# Altium schematic symbol library Analog Devices Amplifiers and Linear Voltage References.SchLib: 547 symbols (part 13 of 20)
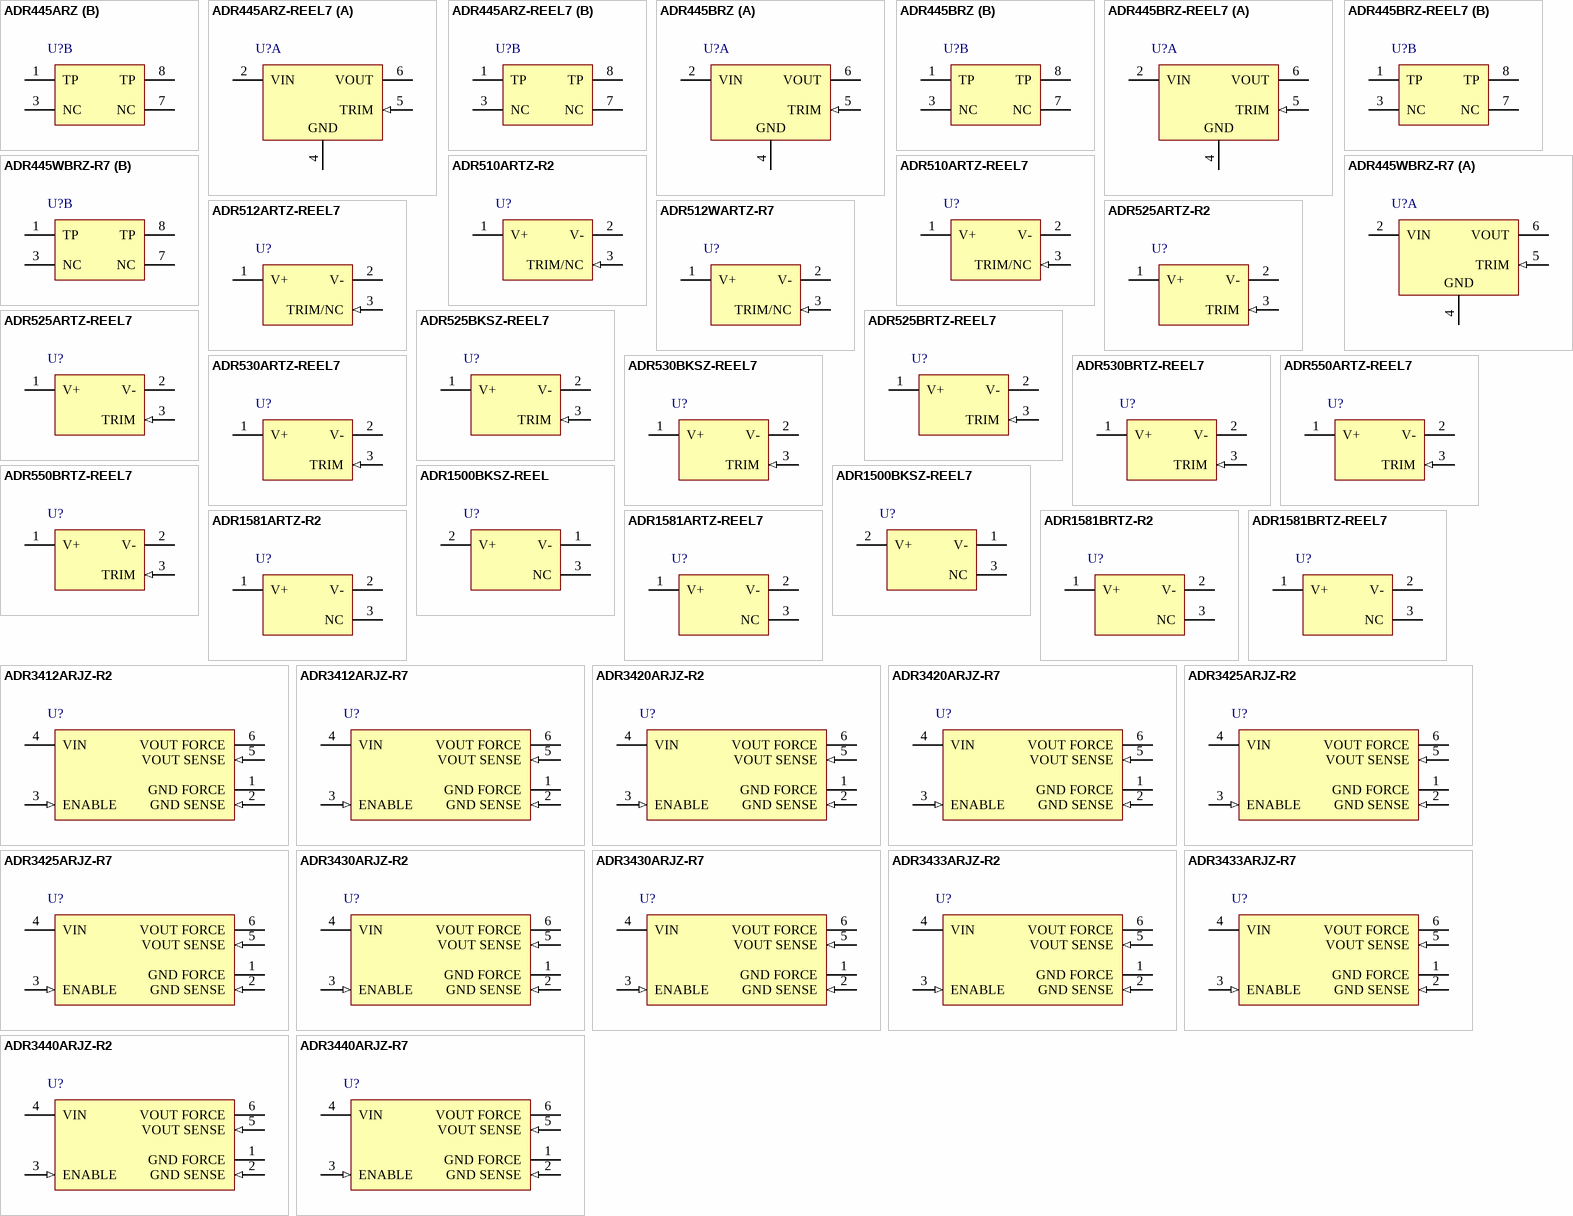
[diagram p32: symbols ADR445ARZ to ADR3440ARJZ-R7]

## ADR445ARZ
designator U?
Ultralow Noise, LDO XFET Voltage Reference with Current Sink and Source, 5 V Output, 5.5 to 18 V Supply, Industrial, 8-pin SOIC (R-8), Tube; Manufacturer: Analog Devices; PartNumber: ADR445ARZ; Max V Supply (V): 18; Min V Supply (V): 5.5; Ref Out TC (ppm/C): 2; Vout: 5V; DatasheetVersion: Rev. E; PackageVersion: 060506-A, 06/2006; PackageReference: R-8; PackageDescription: 8-Pin Standard Small Outline Package, Body 4.9 x 3.9 mm, Pitch 1.27 mm; Supplier 1: Digi-Key; Supplier Part Number 1: ADR445ARZ-ND; Supplier 2: Farnell; Supplier Part Number 2: 1274149; Supplier 3: Mouser; Supplier Part Number 3: 584-ADR445ARZ; Packing: Tube; Operating Temp Range: -40 to 125 degC; Mounting Technology: Surface Mount; Code_JEDEC: MS-012-AA; ComponentLink1Description: Manufacturer URL; ComponentLink1URL: http://www.analog.com/en/index.html; ComponentLink2Description: Datasheet; ComponentLink2URL: http://www.analog.com/static/imported-files/data_sheets/ADR440_441_443_444_445.pdf; ComponentLink3Description: Package Specification; ComponentLink3URL: http://www.analog.com/static/imported-files/packages/PKG_PDF/SOIC_Narrow%20(R)/R_8.pdf; ComponentLink4Description: URL Link1; ComponentLink4URL: Product URL:http://www.analog.com/en/special-linear-functions/voltage-references/adr445/products/product.html
footprint ADI-R-8_N (SOIC, 8-Leads, Body 4.9x3.9mm, Pitch 1.27mm, IPC Medium Density)
footprint ADI-R-8_L (SOIC, 8-Leads, Body 4.9x3.9mm, Pitch 1.27mm, IPC High Density)
footprint ADI-R-8_M (SOIC, 8-Leads, Body 4.9x3.9mm, Pitch 1.27mm, IPC Low Density)
part A pins: 2 VIN (power), 4 GND (power), 5 TRIM (in), 6 VOUT (power)
part B pins: 1 TP, 3 NC, 7 NC, 8 TP

## ADR445ARZ-REEL7
designator U?
Ultralow Noise, LDO XFET Voltage Reference with Current Sink and Source, 5 V Output, 5.5 to 18 V Supply, Industrial, 8-pin SOIC (R-8), Reel; Manufacturer: Analog Devices; PartNumber: ADR445ARZ-REEL7; Max V Supply (V): 18; Min V Supply (V): 5.5; Ref Out TC (ppm/C): 2; Vout: 5V; DatasheetVersion: Rev. E; PackageVersion: 060506-A, 06/2006; PackageReference: R-8; PackageDescription: 8-Pin Standard Small Outline Package, Body 4.9 x 3.9 mm, Pitch 1.27 mm; Supplier 1: Digi-Key; Supplier Part Number 1: ADR445ARZ-REEL7-ND; Supplier 2: Mouser; Supplier Part Number 2: 584-ADR445ARZ-R7; Packing: Reel; Operating Temp Range: -40 to 125 degC; Mounting Technology: Surface Mount; Code_JEDEC: MS-012-AA; ComponentLink1Description: Manufacturer URL; ComponentLink1URL: http://www.analog.com/en/index.html; ComponentLink2Description: Datasheet; ComponentLink2URL: http://www.analog.com/static/imported-files/data_sheets/ADR440_441_443_444_445.pdf; ComponentLink3Description: Package Specification; ComponentLink3URL: http://www.analog.com/static/imported-files/packages/PKG_PDF/SOIC_Narrow%20(R)/R_8.pdf; ComponentLink4Description: URL Link1; ComponentLink4URL: Product URL:http://www.analog.com/en/special-linear-functions/voltage-references/adr445/products/product.html
footprint ADI-R-8_N (SOIC, 8-Leads, Body 4.9x3.9mm, Pitch 1.27mm, IPC Medium Density)
footprint ADI-R-8_L (SOIC, 8-Leads, Body 4.9x3.9mm, Pitch 1.27mm, IPC High Density)
footprint ADI-R-8_M (SOIC, 8-Leads, Body 4.9x3.9mm, Pitch 1.27mm, IPC Low Density)
part A pins: 2 VIN (power), 4 GND (power), 5 TRIM (in), 6 VOUT (power)
part B pins: 1 TP, 3 NC, 7 NC, 8 TP

## ADR445BRZ
designator U?
Ultralow Noise, LDO XFET Voltage Reference with Current Sink and Source, 5 V Output, 5.5 to 18 V Supply, Industrial, 8-pin SOIC (R-8), Tube; Manufacturer: Analog Devices; PartNumber: ADR445BRZ; Max V Supply (V): 18; Min V Supply (V): 5.5; Ref Out TC (ppm/C): 1; Vout: 5V; DatasheetVersion: Rev. E; PackageVersion: 060506-A, 06/2006; PackageReference: R-8; PackageDescription: 8-Pin Standard Small Outline Package, Body 4.9 x 3.9 mm, Pitch 1.27 mm; Supplier 1: Digi-Key; Supplier Part Number 1: ADR445BRZ-ND; Supplier 2: Farnell; Supplier Part Number 2: 1274148; Supplier 3: Mouser; Supplier Part Number 3: 584-ADR445BRZ; Packing: Tube; Operating Temp Range: -40 to 125 degC; Mounting Technology: Surface Mount; Code_JEDEC: MS-012-AA; ComponentLink1Description: Manufacturer URL; ComponentLink1URL: http://www.analog.com/en/index.html; ComponentLink2Description: Datasheet; ComponentLink2URL: http://www.analog.com/static/imported-files/data_sheets/ADR440_441_443_444_445.pdf; ComponentLink3Description: Package Specification; ComponentLink3URL: http://www.analog.com/static/imported-files/packages/PKG_PDF/SOIC_Narrow%20(R)/R_8.pdf; ComponentLink4Description: URL Link1; ComponentLink4URL: Product URL:http://www.analog.com/en/special-linear-functions/voltage-references/adr445/products/product.html
footprint ADI-R-8_N (SOIC, 8-Leads, Body 4.9x3.9mm, Pitch 1.27mm, IPC Medium Density)
footprint ADI-R-8_L (SOIC, 8-Leads, Body 4.9x3.9mm, Pitch 1.27mm, IPC High Density)
footprint ADI-R-8_M (SOIC, 8-Leads, Body 4.9x3.9mm, Pitch 1.27mm, IPC Low Density)
part A pins: 2 VIN (power), 4 GND (power), 5 TRIM (in), 6 VOUT (power)
part B pins: 1 TP, 3 NC, 7 NC, 8 TP

## ADR445BRZ-REEL7
designator U?
Ultralow Noise, LDO XFET Voltage Reference with Current Sink and Source, 5 V Output, 5.5 to 18 V Supply, Industrial, 8-pin SOIC (R-8), Reel; Manufacturer: Analog Devices; PartNumber: ADR445BRZ-REEL7; Max V Supply (V): 18; Min V Supply (V): 5.5; Ref Out TC (ppm/C): 1; Vout: 5V; DatasheetVersion: Rev. E; PackageVersion: 060506-A, 06/2006; PackageReference: R-8; PackageDescription: 8-Pin Standard Small Outline Package, Body 4.9 x 3.9 mm, Pitch 1.27 mm; Supplier 1: Digi-Key; Supplier Part Number 1: ADR445BRZ-REEL7TR-ND; Supplier 2: Digi-Key; Supplier Part Number 2: ADR445BRZ-REEL7CT-ND; Supplier 3: Digi-Key; Supplier Part Number 3: ADR445BRZ-REEL7DKR-ND; Supplier 4: Mouser; Supplier Part Number 4: 584-ADR445BRZ-R7; Packing: Reel; Operating Temp Range: -40 to 125 degC; Mounting Technology: Surface Mount; Code_JEDEC: MS-012-AA; ComponentLink1Description: Manufacturer URL; ComponentLink1URL: http://www.analog.com/en/index.html; ComponentLink2Description: Datasheet; ComponentLink2URL: http://www.analog.com/static/imported-files/data_sheets/ADR440_441_443_444_445.pdf; ComponentLink3Description: Package Specification; ComponentLink3URL: http://www.analog.com/static/imported-files/packages/PKG_PDF/SOIC_Narrow%20(R)/R_8.pdf; ComponentLink4Description: URL Link1; ComponentLink4URL: Product URL:http://www.analog.com/en/special-linear-functions/voltage-references/adr445/products/product.html
footprint ADI-R-8_N (SOIC, 8-Leads, Body 4.9x3.9mm, Pitch 1.27mm, IPC Medium Density)
footprint ADI-R-8_L (SOIC, 8-Leads, Body 4.9x3.9mm, Pitch 1.27mm, IPC High Density)
footprint ADI-R-8_M (SOIC, 8-Leads, Body 4.9x3.9mm, Pitch 1.27mm, IPC Low Density)
part A pins: 2 VIN (power), 4 GND (power), 5 TRIM (in), 6 VOUT (power)
part B pins: 1 TP, 3 NC, 7 NC, 8 TP

## ADR445WBRZ-R7
designator U?
Ultralow Noise, LDO XFET Voltage Reference with Current Sink and Source, 5 V Output, 5.5 to 18 V Supply, Automotive, 8-pin SOIC (R-8), Reel; Manufacturer: Analog Devices; PartNumber: ADR445WBRZ-R7; Max V Supply (V): 18; Min V Supply (V): 5.5; Ref Out TC (ppm/C): 1; Vout: 5V; DatasheetVersion: Rev. E; PackageVersion: 060506-A, 06/2006; PackageReference: R-8; PackageDescription: 8-Pin Standard Small Outline Package, Body 4.9 x 3.9 mm, Pitch 1.27 mm; Supplier 1: Mouser; Supplier Part Number 1: N/A; Packing: Reel; Operating Temp Range: -40 to 125 degC; Mounting Technology: Surface Mount; Code_JEDEC: MS-012-AA; ComponentLink1Description: Manufacturer URL; ComponentLink1URL: http://www.analog.com/en/index.html; ComponentLink2Description: Datasheet; ComponentLink2URL: http://www.analog.com/static/imported-files/data_sheets/ADR440_441_443_444_445.pdf; ComponentLink3Description: Package Specification; ComponentLink3URL: http://www.analog.com/static/imported-files/packages/PKG_PDF/SOIC_Narrow%20(R)/R_8.pdf; ComponentLink4Description: URL Link1; ComponentLink4URL: Product URL:http://www.analog.com/en/special-linear-functions/voltage-references/adr445/products/product.html
footprint ADI-R-8_N (SOIC, 8-Leads, Body 4.9x3.9mm, Pitch 1.27mm, IPC Medium Density)
footprint ADI-R-8_L (SOIC, 8-Leads, Body 4.9x3.9mm, Pitch 1.27mm, IPC High Density)
footprint ADI-R-8_M (SOIC, 8-Leads, Body 4.9x3.9mm, Pitch 1.27mm, IPC Low Density)
part A pins: 2 VIN (power), 4 GND (power), 5 TRIM (in), 6 VOUT (power)
part B pins: 1 TP, 3 NC, 7 NC, 8 TP

## ADR510ARTZ-R2
designator U?
Precision Low Noise Shunt Voltage Reference, 1 V Output, Industrial, 3-pin SOT23 (RT-3), Reel; Manufacturer: Analog Devices; PartNumber: ADR510ARTZ-R2; Ref Out TC (ppm/C): 85; Vout: 1V; DatasheetVersion: Rev. B; PackageVersion: 011909-C, 02/2009; PackageReference: RT-3; PackageDescription: 3-Pin Small Outline Transistor Package, Body 2.9 x 1.3 mm, Pitch 0.96 mm; Supplier 1: Digi-Key; Supplier Part Number 1: ADR510ARTZ-R2TR-ND; Supplier 2: Digi-Key; Supplier Part Number 2: ADR510ARTZ-R2CT-ND; Supplier 3: Digi-Key; Supplier Part Number 3: ADR510ARTZ-R2DKR-ND; Supplier 4: Farnell; Supplier Part Number 4: 2377029; Supplier 5: Newark; Supplier Part Number 5: 23X6061; Supplier 6: Newark; Supplier Part Number 6: 52M2886; Supplier 7: Mouser; Supplier Part Number 7: 584-ADR510ARTZ-R2; Packing: Reel; Operating Temp Range: -40 to 85 degC; Mounting Technology: Surface Mount; Code_JEDEC: TO-236-AB; ComponentLink1Description: Manufacturer URL; ComponentLink1URL: http://www.analog.com/en/index.html; ComponentLink2Description: Datasheet; ComponentLink2URL: http://www.analog.com/static/imported-files/data_sheets/ADR510.pdf; ComponentLink3Description: Package Specification; ComponentLink3URL: http:/www.analog.com/static/imported-files/packages/PKG_PDF/SOT-23-3 (RT)/RT_3.pdf; ComponentLink4Description: URL Link1; ComponentLink4URL: Product URL:http://www.analog.com/en/special-linear-functions/voltage-references/adr510/products/product.html
footprint ADI-RT-3_N (SOT23, 3-Leads, Body 2.9x1.3mm, Pitch 0.96mm, IPC Medium Density)
footprint ADI-RT-3_L (SOT23, 3-Leads, Body 2.9x1.3mm, Pitch 0.96mm, IPC High Density)
footprint ADI-RT-3_M (SOT23, 3-Leads, Body 2.9x1.3mm, Pitch 0.96mm, IPC Low Density)
pins: 1 V+ (power), 2 V- (power), 3 TRIM/NC (in)

## ADR510ARTZ-REEL7
designator U?
Precision Low Noise Shunt Voltage Reference, 1 V Output, Industrial, 3-pin SOT23 (RT-3), Reel; Manufacturer: Analog Devices; PartNumber: ADR510ARTZ-REEL7; Ref Out TC (ppm/C): 85; Vout: 1V; DatasheetVersion: Rev. B; PackageVersion: 011909-C, 02/2009; PackageReference: RT-3; PackageDescription: 3-Pin Small Outline Transistor Package, Body 2.9 x 1.3 mm, Pitch 0.96 mm; Supplier 1: Digi-Key; Supplier Part Number 1: ADR510ARTZ-REEL7TR-ND; Supplier 2: Digi-Key; Supplier Part Number 2: ADR510ARTZ-REEL7CT-ND; Supplier 3: Digi-Key; Supplier Part Number 3: ADR510ARTZ-REEL7DKR-ND; Supplier 4: Farnell; Supplier Part Number 4: 2370361; Supplier 5: Newark; Supplier Part Number 5: 59K2838; Supplier 6: Newark; Supplier Part Number 6: 19M8736; Supplier 7: Mouser; Supplier Part Number 7: 584-ADR510ARTZ-R7; Packing: Reel; Operating Temp Range: -40 to 85 degC; Mounting Technology: Surface Mount; Code_JEDEC: TO-236-AB; ComponentLink1Description: Manufacturer URL; ComponentLink1URL: http://www.analog.com/en/index.html; ComponentLink2Description: Datasheet; ComponentLink2URL: http://www.analog.com/static/imported-files/data_sheets/ADR510.pdf; ComponentLink3Description: Package Specification; ComponentLink3URL: http:/www.analog.com/static/imported-files/packages/PKG_PDF/SOT-23-3 (RT)/RT_3.pdf; ComponentLink4Description: URL Link1; ComponentLink4URL: Product URL:http://www.analog.com/en/special-linear-functions/voltage-references/adr510/products/product.html
footprint ADI-RT-3_N (SOT23, 3-Leads, Body 2.9x1.3mm, Pitch 0.96mm, IPC Medium Density)
footprint ADI-RT-3_L (SOT23, 3-Leads, Body 2.9x1.3mm, Pitch 0.96mm, IPC High Density)
footprint ADI-RT-3_M (SOT23, 3-Leads, Body 2.9x1.3mm, Pitch 0.96mm, IPC Low Density)
pins: 1 V+ (power), 2 V- (power), 3 TRIM/NC (in)

## ADR512ARTZ-REEL7
designator U?
Precision Low Noise Shunt Voltage Reference, 1.2 V Output, Industrial, 3-pin SOT23 (RT-3), Reel; Manufacturer: Analog Devices; PartNumber: ADR512ARTZ-REEL7; Automotive Qualified: Yes; Ref Out TC (ppm/C): 60; Vout: 1.2V; DatasheetVersion: Rev. A; PackageVersion: 011909-C, 02/2009; PackageReference: RT-3; PackageDescription: 3-Pin Small Outline Transistor Package, Body 2.9 x 1.3 mm, Pitch 0.96 mm; Supplier 1: Digi-Key; Supplier Part Number 1: ADR512ARTZ-REEL7TR-ND; Supplier 2: Digi-Key; Supplier Part Number 2: ADR512ARTZ-REEL7CT-ND; Supplier 3: Digi-Key; Supplier Part Number 3: ADR512ARTZ-REEL7DKR-ND; Supplier 4: Farnell; Supplier Part Number 4: 2312910; Supplier 5: Newark; Supplier Part Number 5: 67W2731; Supplier 6: Newark; Supplier Part Number 6: 59K2839; Supplier 7: Mouser; Supplier Part Number 7: 584-ADR512ARTZ-R7; Packing: Reel; Operating Temp Range: -40 to 85 degC; Mounting Technology: Surface Mount; Code_JEDEC: TO-236-AB; ComponentLink1Description: Manufacturer URL; ComponentLink1URL: http://www.analog.com/en/index.html; ComponentLink2Description: Datasheet; ComponentLink2URL: http://www.analog.com/static/imported-files/data_sheets/ADR512.pdf; ComponentLink3Description: Package Specification; ComponentLink3URL: http:/www.analog.com/static/imported-files/packages/PKG_PDF/SOT-23-3 (RT)/RT_3.pdf; ComponentLink4Description: URL Link1; ComponentLink4URL: Product URL:http://www.analog.com/en/special-linear-functions/voltage-references/adr512/products/product.html
footprint ADI-RT-3_N (SOT23, 3-Leads, Body 2.9x1.3mm, Pitch 0.96mm, IPC Medium Density)
footprint ADI-RT-3_L (SOT23, 3-Leads, Body 2.9x1.3mm, Pitch 0.96mm, IPC High Density)
footprint ADI-RT-3_M (SOT23, 3-Leads, Body 2.9x1.3mm, Pitch 0.96mm, IPC Low Density)
pins: 1 V+ (power), 2 V- (power), 3 TRIM/NC (in)

## ADR512WARTZ-R7
designator U?
Precision Low Noise Shunt Voltage Reference, 1.2 V Output, Automotive, 3-pin SOT23 (RT-3), Reel; Manufacturer: Analog Devices; PartNumber: ADR512WARTZ-R7; Automotive Qualified: Yes; Ref Out TC (ppm/C): 60; Vout: 1.2V; DatasheetVersion: Rev. A; PackageVersion: 011909-C, 02/2009; PackageReference: RT-3; PackageDescription: 3-Pin Small Outline Transistor Package, Body 2.9 x 1.3 mm, Pitch 0.96 mm; Supplier 1: Digi-Key; Supplier Part Number 1: ADR512WARTZ-R7TR-ND; Supplier 2: Digi-Key; Supplier Part Number 2: ADR512WARTZ-R7CT-ND; Supplier 3: Digi-Key; Supplier Part Number 3: ADR512WARTZ-R7DKR-ND; Supplier 4: Mouser; Supplier Part Number 4: 584-ADR512WARTZ-R7; Packing: Reel; Operating Temp Range: -40 to 85 degC; Mounting Technology: Surface Mount; Code_JEDEC: TO-236-AB; ComponentLink1Description: Manufacturer URL; ComponentLink1URL: http://www.analog.com/en/index.html; ComponentLink2Description: Datasheet; ComponentLink2URL: http://www.analog.com/static/imported-files/data_sheets/ADR512.pdf; ComponentLink3Description: Package Specification; ComponentLink3URL: http:/www.analog.com/static/imported-files/packages/PKG_PDF/SOT-23-3 (RT)/RT_3.pdf; ComponentLink4Description: URL Link1; ComponentLink4URL: Product URL:http://www.analog.com/en/special-linear-functions/voltage-references/adr512/products/product.html
footprint ADI-RT-3_N (SOT23, 3-Leads, Body 2.9x1.3mm, Pitch 0.96mm, IPC Medium Density)
footprint ADI-RT-3_L (SOT23, 3-Leads, Body 2.9x1.3mm, Pitch 0.96mm, IPC High Density)
footprint ADI-RT-3_M (SOT23, 3-Leads, Body 2.9x1.3mm, Pitch 0.96mm, IPC Low Density)
pins: 1 V+ (power), 2 V- (power), 3 TRIM/NC (in)

## ADR525ARTZ-R2
designator U?
High Precision Shunt Mode Voltage Reference, 2.5 V Output, Industrial, 3-pin SOT23 (RT-3), Reel; Manufacturer: Analog Devices; PartNumber: ADR525ARTZ-R2; Ref Out TC (ppm/C): 25; Vout: 2.5V; DatasheetVersion: Rev. F; PackageVersion: 011909-C, 02/2009; PackageReference: RT-3; PackageDescription: 3-Pin Small Outline Transistor Package, Body 2.9 x 1.3 mm, Pitch 0.96 mm; Supplier 1: Digi-Key; Supplier Part Number 1: ADR525ARTZ-R2TR-ND; Supplier 2: Digi-Key; Supplier Part Number 2: ADR525ARTZ-R2CT-ND; Supplier 3: Digi-Key; Supplier Part Number 3: ADR525ARTZ-R2DKR-ND; Supplier 4: Newark; Supplier Part Number 4: 12M8228; Supplier 5: Mouser; Supplier Part Number 5: 584-ADR525ARTZ-R2; Packing: Reel; Operating Temp Range: -40 to 85 degC; Mounting Technology: Surface Mount; Code_JEDEC: TO-236-AB; ComponentLink1Description: Manufacturer URL; ComponentLink1URL: http://www.analog.com/en/index.html; ComponentLink2Description: Datasheet; ComponentLink2URL: http://www.analog.com/static/imported-files/data_sheets/ADR525_530_550.pdf; ComponentLink3Description: Package Specification; ComponentLink3URL: http:/www.analog.com/static/imported-files/packages/PKG_PDF/SOT-23-3 (RT)/RT_3.pdf; ComponentLink4Description: URL Link1; ComponentLink4URL: Product URL:http://www.analog.com/en/special-linear-functions/voltage-references/adr525/products/product.html
footprint ADI-RT-3_N (SOT23, 3-Leads, Body 2.9x1.3mm, Pitch 0.96mm, IPC Medium Density)
footprint ADI-RT-3_L (SOT23, 3-Leads, Body 2.9x1.3mm, Pitch 0.96mm, IPC High Density)
footprint ADI-RT-3_M (SOT23, 3-Leads, Body 2.9x1.3mm, Pitch 0.96mm, IPC Low Density)
pins: 1 V+, 2 V-, 3 TRIM (in)

## ADR525ARTZ-REEL7
designator U?
High Precision Shunt Mode Voltage Reference, 2.5 V Output, Industrial, 3-pin SOT23 (RT-3), Reel; Manufacturer: Analog Devices; PartNumber: ADR525ARTZ-REEL7; Ref Out TC (ppm/C): 25; Vout: 2.5V; DatasheetVersion: Rev. F; PackageVersion: 011909-C, 02/2009; PackageReference: RT-3; PackageDescription: 3-Pin Small Outline Transistor Package, Body 2.9 x 1.3 mm, Pitch 0.96 mm; Supplier 1: Digi-Key; Supplier Part Number 1: ADR525ARTZ-REEL7TR-ND; Supplier 2: Digi-Key; Supplier Part Number 2: ADR525ARTZ-REEL7CT-ND; Supplier 3: Digi-Key; Supplier Part Number 3: ADR525ARTZ-REEL7DKR-ND; Supplier 4: Newark; Supplier Part Number 4: 59K2850; Supplier 5: Mouser; Supplier Part Number 5: 584-ADR525ARTZ-R7; Packing: Reel; Operating Temp Range: -40 to 85 degC; Mounting Technology: Surface Mount; Code_JEDEC: TO-236-AB; ComponentLink1Description: Manufacturer URL; ComponentLink1URL: http://www.analog.com/en/index.html; ComponentLink2Description: Datasheet; ComponentLink2URL: http://www.analog.com/static/imported-files/data_sheets/ADR525_530_550.pdf; ComponentLink3Description: Package Specification; ComponentLink3URL: http:/www.analog.com/static/imported-files/packages/PKG_PDF/SOT-23-3 (RT)/RT_3.pdf; ComponentLink4Description: URL Link1; ComponentLink4URL: Product URL:http://www.analog.com/en/special-linear-functions/voltage-references/adr525/products/product.html
footprint ADI-RT-3_N (SOT23, 3-Leads, Body 2.9x1.3mm, Pitch 0.96mm, IPC Medium Density)
footprint ADI-RT-3_L (SOT23, 3-Leads, Body 2.9x1.3mm, Pitch 0.96mm, IPC High Density)
footprint ADI-RT-3_M (SOT23, 3-Leads, Body 2.9x1.3mm, Pitch 0.96mm, IPC Low Density)
pins: 1 V+, 2 V-, 3 TRIM (in)

## ADR525BKSZ-REEL7
designator U?
High Precision Shunt Mode Voltage Reference, 2.5 V Output, Industrial, 3-pin SOT23 (KS-3), Reel; Manufacturer: Analog Devices; PartNumber: ADR525BKSZ-REEL7; Ref Out TC (ppm/C): 15; Vout: 2.5V; DatasheetVersion: Rev. F; PackageVersion: 072809-A, 07/2009; PackageReference: KS-3; PackageDescription: 3-Pin Thin Shrink Small Outline Transistor Package, Body 2 x 1.25 mm, Pitch 0.65 mm; Supplier 1: Digi-Key; Supplier Part Number 1: ADR525BKSZ-REEL7TR-ND; Supplier 2: Digi-Key; Supplier Part Number 2: ADR525BKSZ-REEL7CT-ND; Supplier 3: Digi-Key; Supplier Part Number 3: ADR525BKSZ-REEL7DKR-ND; Supplier 4: Farnell; Supplier Part Number 4: 2312911; Supplier 5: Newark; Supplier Part Number 5: 67W2732; Supplier 6: Newark; Supplier Part Number 6: 59K2853; Supplier 7: Mouser; Supplier Part Number 7: 584-ADR525BKSZ-R7; Packing: Reel; Operating Temp Range: -40 to 85 degC; Mounting Technology: Surface Mount; ComponentLink1Description: Manufacturer URL; ComponentLink1URL: http://www.analog.com/en/index.html; ComponentLink2Description: Datasheet; ComponentLink2URL: http://www.analog.com/static/imported-files/data_sheets/ADR525_530_550.pdf; ComponentLink3Description: Package Specification; ComponentLink3URL: http:/www.analog.com/static/imported-files/packages/PKG_PDF/SC70(KS)/KS_3.pdf; ComponentLink4Description: URL Link1; ComponentLink4URL: Product URL:http://www.analog.com/en/special-linear-functions/voltage-references/adr525/products/product.html
footprint ADI-KS-3_N (SOT23, 3-Leads, Body 2x1.25mm, Pitch 0.65mm, IPC Medium Density)
footprint ADI-KS-3_L (SOT23, 3-Leads, Body 2x1.25mm, Pitch 0.65mm, IPC High Density)
footprint ADI-KS-3_M (SOT23, 3-Leads, Body 2x1.25mm, Pitch 0.65mm, IPC Low Density)
pins: 1 V+, 2 V-, 3 TRIM (in)

## ADR525BRTZ-REEL7
designator U?
High Precision Shunt Mode Voltage Reference, 2.5 V Output, Industrial, 3-pin SOT23 (RT-3), Reel; Manufacturer: Analog Devices; PartNumber: ADR525BRTZ-REEL7; Ref Out TC (ppm/C): 15; Vout: 2.5V; DatasheetVersion: Rev. F; PackageVersion: 011909-C, 02/2009; PackageReference: RT-3; PackageDescription: 3-Pin Small Outline Transistor Package, Body 2.9 x 1.3 mm, Pitch 0.96 mm; Supplier 1: Digi-Key; Supplier Part Number 1: ADR525BRTZ-REEL7TR-ND; Supplier 2: Digi-Key; Supplier Part Number 2: ADR525BRTZ-REEL7CT-ND; Supplier 3: Digi-Key; Supplier Part Number 3: ADR525BRTZ-REEL7DKR-ND; Supplier 4: Farnell; Supplier Part Number 4: 2312912; Supplier 5: Newark; Supplier Part Number 5: 59K2856; Supplier 6: Newark; Supplier Part Number 6: 67W2733; Supplier 7: Mouser; Supplier Part Number 7: 584-ADR525BRTZ-R7; Packing: Reel; Operating Temp Range: -40 to 85 degC; Mounting Technology: Surface Mount; Code_JEDEC: TO-236-AB; ComponentLink1Description: Manufacturer URL; ComponentLink1URL: http://www.analog.com/en/index.html; ComponentLink2Description: Datasheet; ComponentLink2URL: http://www.analog.com/static/imported-files/data_sheets/ADR525_530_550.pdf; ComponentLink3Description: Package Specification; ComponentLink3URL: http:/www.analog.com/static/imported-files/packages/PKG_PDF/SOT-23-3 (RT)/RT_3.pdf; ComponentLink4Description: URL Link1; ComponentLink4URL: Product URL:http://www.analog.com/en/special-linear-functions/voltage-references/adr525/products/product.html
footprint ADI-RT-3_N (SOT23, 3-Leads, Body 2.9x1.3mm, Pitch 0.96mm, IPC Medium Density)
footprint ADI-RT-3_L (SOT23, 3-Leads, Body 2.9x1.3mm, Pitch 0.96mm, IPC High Density)
footprint ADI-RT-3_M (SOT23, 3-Leads, Body 2.9x1.3mm, Pitch 0.96mm, IPC Low Density)
pins: 1 V+, 2 V-, 3 TRIM (in)

## ADR530ARTZ-REEL7
designator U?
High Precision Shunt Mode Voltage Reference, 3 V Output, Industrial, 3-pin SOT23 (RT-3), Reel; Manufacturer: Analog Devices; PartNumber: ADR530ARTZ-REEL7; Ref Out TC (ppm/C): 25; Vout: 3V; DatasheetVersion: Rev. F; PackageVersion: 011909-C, 02/2009; PackageReference: RT-3; PackageDescription: 3-Pin Small Outline Transistor Package, Body 2.9 x 1.3 mm, Pitch 0.96 mm; Supplier 1: Digi-Key; Supplier Part Number 1: ADR530ARTZ-REEL7TR-ND; Supplier 2: Digi-Key; Supplier Part Number 2: ADR530ARTZ-REEL7CT-ND; Supplier 3: Digi-Key; Supplier Part Number 3: ADR530ARTZ-REEL7DKR-ND; Supplier 4: Newark; Supplier Part Number 4: 59K2859; Supplier 5: Mouser; Supplier Part Number 5: 584-ADR530ARTZ-R7; Packing: Reel; Operating Temp Range: -40 to 85 degC; Mounting Technology: Surface Mount; Code_JEDEC: TO-236-AB; ComponentLink1Description: Manufacturer URL; ComponentLink1URL: http://www.analog.com/en/index.html; ComponentLink2Description: Datasheet; ComponentLink2URL: http://www.analog.com/static/imported-files/data_sheets/ADR525_530_550.pdf; ComponentLink3Description: Package Specification; ComponentLink3URL: http:/www.analog.com/static/imported-files/packages/PKG_PDF/SOT-23-3 (RT)/RT_3.pdf; ComponentLink4Description: URL Link1; ComponentLink4URL: Product URL:http://www.analog.com/en/special-linear-functions/voltage-references/adr530/products/product.html
footprint ADI-RT-3_N (SOT23, 3-Leads, Body 2.9x1.3mm, Pitch 0.96mm, IPC Medium Density)
footprint ADI-RT-3_L (SOT23, 3-Leads, Body 2.9x1.3mm, Pitch 0.96mm, IPC High Density)
footprint ADI-RT-3_M (SOT23, 3-Leads, Body 2.9x1.3mm, Pitch 0.96mm, IPC Low Density)
pins: 1 V+, 2 V-, 3 TRIM (in)

## ADR530BKSZ-REEL7
designator U?
High Precision Shunt Mode Voltage Reference, 3 V Output, Industrial, 3-pin SOT23 (KS-3), Reel; Manufacturer: Analog Devices; PartNumber: ADR530BKSZ-REEL7; Ref Out TC (ppm/C): 15; Vout: 3V; DatasheetVersion: Rev. F; PackageVersion: 072809-A, 07/2009; PackageReference: KS-3; PackageDescription: 3-Pin Thin Shrink Small Outline Transistor Package, Body 2 x 1.25 mm, Pitch 0.65 mm; Supplier 1: Digi-Key; Supplier Part Number 1: ADR530BKSZ-REEL7TR-ND; Supplier 2: Digi-Key; Supplier Part Number 2: ADR530BKSZ-REEL7CT-ND; Supplier 3: Digi-Key; Supplier Part Number 3: ADR530BKSZ-REEL7DKR-ND; Supplier 4: Farnell; Supplier Part Number 4: 2312913; Supplier 5: Newark; Supplier Part Number 5: 67W2734; Supplier 6: Newark; Supplier Part Number 6: 59K2862; Supplier 7: Mouser; Supplier Part Number 7: 584-ADR530BKSZ-R7; Packing: Reel; Operating Temp Range: -40 to 85 degC; Mounting Technology: Surface Mount; ComponentLink1Description: Manufacturer URL; ComponentLink1URL: http://www.analog.com/en/index.html; ComponentLink2Description: Datasheet; ComponentLink2URL: http://www.analog.com/static/imported-files/data_sheets/ADR525_530_550.pdf; ComponentLink3Description: Package Specification; ComponentLink3URL: http:/www.analog.com/static/imported-files/packages/PKG_PDF/SC70(KS)/KS_3.pdf; ComponentLink4Description: URL Link1; ComponentLink4URL: Product URL:http://www.analog.com/en/special-linear-functions/voltage-references/adr530/products/product.html
footprint ADI-KS-3_N (SOT23, 3-Leads, Body 2x1.25mm, Pitch 0.65mm, IPC Medium Density)
footprint ADI-KS-3_L (SOT23, 3-Leads, Body 2x1.25mm, Pitch 0.65mm, IPC High Density)
footprint ADI-KS-3_M (SOT23, 3-Leads, Body 2x1.25mm, Pitch 0.65mm, IPC Low Density)
pins: 1 V+, 2 V-, 3 TRIM (in)

## ADR530BRTZ-REEL7
designator U?
High Precision Shunt Mode Voltage Reference, 3 V Output, Industrial, 3-pin SOT23 (RT-3), Reel; Manufacturer: Analog Devices; PartNumber: ADR530BRTZ-REEL7; Ref Out TC (ppm/C): 15; Vout: 3V; DatasheetVersion: Rev. F; PackageVersion: 011909-C, 02/2009; PackageReference: RT-3; PackageDescription: 3-Pin Small Outline Transistor Package, Body 2.9 x 1.3 mm, Pitch 0.96 mm; Supplier 1: Digi-Key; Supplier Part Number 1: ADR530BRTZ-REEL7TR-ND; Supplier 2: Digi-Key; Supplier Part Number 2: ADR530BRTZ-REEL7CT-ND; Supplier 3: Digi-Key; Supplier Part Number 3: ADR530BRTZ-REEL7DKR-ND; Supplier 4: Farnell; Supplier Part Number 4: 2361640; Supplier 5: Farnell; Supplier Part Number 5: 2312798; Supplier 6: Newark; Supplier Part Number 6: 59K2865; Supplier 7: Newark; Supplier Part Number 7: 80K8148; Supplier 8: Mouser; Supplier Part Number 8: 584-ADR530BRTZ-R7; Packing: Reel; Operating Temp Range: -40 to 85 degC; Mounting Technology: Surface Mount; Code_JEDEC: TO-236-AB; ComponentLink1Description: Manufacturer URL; ComponentLink1URL: http://www.analog.com/en/index.html; ComponentLink2Description: Datasheet; ComponentLink2URL: http://www.analog.com/static/imported-files/data_sheets/ADR525_530_550.pdf; ComponentLink3Description: Package Specification; ComponentLink3URL: http:/www.analog.com/static/imported-files/packages/PKG_PDF/SOT-23-3 (RT)/RT_3.pdf; ComponentLink4Description: URL Link1; ComponentLink4URL: Product URL:http://www.analog.com/en/special-linear-functions/voltage-references/adr530/products/product.html
footprint ADI-RT-3_N (SOT23, 3-Leads, Body 2.9x1.3mm, Pitch 0.96mm, IPC Medium Density)
footprint ADI-RT-3_L (SOT23, 3-Leads, Body 2.9x1.3mm, Pitch 0.96mm, IPC High Density)
footprint ADI-RT-3_M (SOT23, 3-Leads, Body 2.9x1.3mm, Pitch 0.96mm, IPC Low Density)
pins: 1 V+, 2 V-, 3 TRIM (in)

## ADR550ARTZ-REEL7
designator U?
High Precision Shunt Mode Voltage Reference, 5 V Output, Industrial, 3-pin SOT23 (RT-3), Reel; Manufacturer: Analog Devices; PartNumber: ADR550ARTZ-REEL7; Ref Out TC (ppm/C): 25; Vout: 5V; DatasheetVersion: Rev. F; PackageVersion: 011909-C, 02/2009; PackageReference: RT-3; PackageDescription: 3-Pin Small Outline Transistor Package, Body 2.9 x 1.3 mm, Pitch 0.96 mm; Supplier 1: Digi-Key; Supplier Part Number 1: ADR550ARTZ-REEL7TR-ND; Supplier 2: Digi-Key; Supplier Part Number 2: ADR550ARTZ-REEL7CT-ND; Supplier 3: Digi-Key; Supplier Part Number 3: ADR550ARTZ-REEL7DKR-ND; Supplier 4: Mouser; Supplier Part Number 4: 584-ADR550ARTZ-R7; Packing: Reel; Operating Temp Range: -40 to 85 degC; Mounting Technology: Surface Mount; Code_JEDEC: TO-236-AB; ComponentLink1Description: Manufacturer URL; ComponentLink1URL: http://www.analog.com/en/index.html; ComponentLink2Description: Datasheet; ComponentLink2URL: http://www.analog.com/static/imported-files/data_sheets/ADR525_530_550.pdf; ComponentLink3Description: Package Specification; ComponentLink3URL: http:/www.analog.com/static/imported-files/packages/PKG_PDF/SOT-23-3 (RT)/RT_3.pdf; ComponentLink4Description: URL Link1; ComponentLink4URL: Product URL:http://www.analog.com/en/special-linear-functions/voltage-references/adr550/products/product.html
footprint ADI-RT-3_N (SOT23, 3-Leads, Body 2.9x1.3mm, Pitch 0.96mm, IPC Medium Density)
footprint ADI-RT-3_L (SOT23, 3-Leads, Body 2.9x1.3mm, Pitch 0.96mm, IPC High Density)
footprint ADI-RT-3_M (SOT23, 3-Leads, Body 2.9x1.3mm, Pitch 0.96mm, IPC Low Density)
pins: 1 V+, 2 V-, 3 TRIM (in)

## ADR550BRTZ-REEL7
designator U?
High Precision Shunt Mode Voltage Reference, 5 V Output, Industrial, 3-pin SOT23 (RT-3), Reel; Manufacturer: Analog Devices; PartNumber: ADR550BRTZ-REEL7; Ref Out TC (ppm/C): 15; Vout: 5V; DatasheetVersion: Rev. F; PackageVersion: 011909-C, 02/2009; PackageReference: RT-3; PackageDescription: 3-Pin Small Outline Transistor Package, Body 2.9 x 1.3 mm, Pitch 0.96 mm; Supplier 1: Digi-Key; Supplier Part Number 1: ADR550BRTZ-REEL7TR-ND; Supplier 2: Digi-Key; Supplier Part Number 2: ADR550BRTZ-REEL7CT-ND; Supplier 3: Digi-Key; Supplier Part Number 3: ADR550BRTZ-REEL7DKR-ND; Supplier 4: Farnell; Supplier Part Number 4: 2312914; Supplier 5: Newark; Supplier Part Number 5: 67W2735; Supplier 6: Newark; Supplier Part Number 6: 59K2883; Supplier 7: Mouser; Supplier Part Number 7: 584-ADR550BRTZ-R7; Packing: Reel; Operating Temp Range: -40 to 85 degC; Mounting Technology: Surface Mount; Code_JEDEC: TO-236-AB; ComponentLink1Description: Manufacturer URL; ComponentLink1URL: http://www.analog.com/en/index.html; ComponentLink2Description: Datasheet; ComponentLink2URL: http://www.analog.com/static/imported-files/data_sheets/ADR525_530_550.pdf; ComponentLink3Description: Package Specification; ComponentLink3URL: http:/www.analog.com/static/imported-files/packages/PKG_PDF/SOT-23-3 (RT)/RT_3.pdf; ComponentLink4Description: URL Link1; ComponentLink4URL: Product URL:http://www.analog.com/en/special-linear-functions/voltage-references/adr550/products/product.html
footprint ADI-RT-3_N (SOT23, 3-Leads, Body 2.9x1.3mm, Pitch 0.96mm, IPC Medium Density)
footprint ADI-RT-3_L (SOT23, 3-Leads, Body 2.9x1.3mm, Pitch 0.96mm, IPC High Density)
footprint ADI-RT-3_M (SOT23, 3-Leads, Body 2.9x1.3mm, Pitch 0.96mm, IPC Low Density)
pins: 1 V+, 2 V-, 3 TRIM (in)

## ADR1500BKSZ-REEL
designator U?
Micropower, Shunt Voltage Reference, 1.2875 V Output, Industrial, 3-pin SOT23 (KS-3), Reel; Manufacturer: Analog Devices; PartNumber: ADR1500BKSZ-REEL; Ref Out TC (ppm/C): 170; DatasheetVersion: Rev. 0; PackageVersion: 072809-A, 07/2009; PackageReference: KS-3; PackageDescription: 3-Pin Thin Shrink Small Outline Transistor Package, Body 2 x 1.25 mm, Pitch 0.65 mm; Supplier 1: Digi-Key; Supplier Part Number 1: ADR1500BKSZ-REEL-ND; Supplier 2: Mouser; Supplier Part Number 2: 584-ADR1500BKSZ-R; Packing: Reel; Operating Temp Range: -40 to 85 degC; Vout: 1.2875V; Mounting Technology: Surface Mount; ComponentLink1Description: Manufacturer URL; ComponentLink1URL: http://www.analog.com/en/index.html; ComponentLink2Description: Datasheet; ComponentLink2URL: http://www.analog.com/static/imported-files/data_sheets/ADR1500.pdf; ComponentLink3Description: Package Specification; ComponentLink3URL: http:/www.analog.com/static/imported-files/packages/PKG_PDF/SC70(KS)/KS_3.pdf; ComponentLink4Description: URL Link1; ComponentLink4URL: Product URL:http://www.analog.com/en/special-linear-functions/voltage-references/adr1500/products/product.html
footprint ADI-KS-3_N (SOT23, 3-Leads, Body 2x1.25mm, Pitch 0.65mm, IPC Medium Density)
footprint ADI-KS-3_L (SOT23, 3-Leads, Body 2x1.25mm, Pitch 0.65mm, IPC High Density)
footprint ADI-KS-3_M (SOT23, 3-Leads, Body 2x1.25mm, Pitch 0.65mm, IPC Low Density)
pins: 1 V-, 2 V+, 3 NC

## ADR1500BKSZ-REEL7
designator U?
Micropower, Shunt Voltage Reference, 1.2875 V Output, Industrial, 3-pin SOT23 (KS-3), Reel; Manufacturer: Analog Devices; PartNumber: ADR1500BKSZ-REEL7; Ref Out TC (ppm/C): 170; DatasheetVersion: Rev. 0; PackageVersion: 072809-A, 07/2009; PackageReference: KS-3; PackageDescription: 3-Pin Thin Shrink Small Outline Transistor Package, Body 2 x 1.25 mm, Pitch 0.65 mm; Supplier 1: Digi-Key; Supplier Part Number 1: ADR1500BKSZ-REEL7TR-ND; Supplier 2: Digi-Key; Supplier Part Number 2: ADR1500BKSZ-REEL7CT-ND; Supplier 3: Digi-Key; Supplier Part Number 3: ADR1500BKSZ-REEL7DKR-ND; Supplier 4: Mouser; Supplier Part Number 4: 584-ADR1500BKSZ-R7; Packing: Reel; Operating Temp Range: -40 to 85 degC; Vout: 1.2875V; Mounting Technology: Surface Mount; ComponentLink1Description: Manufacturer URL; ComponentLink1URL: http://www.analog.com/en/index.html; ComponentLink2Description: Datasheet; ComponentLink2URL: http://www.analog.com/static/imported-files/data_sheets/ADR1500.pdf; ComponentLink3Description: Package Specification; ComponentLink3URL: http:/www.analog.com/static/imported-files/packages/PKG_PDF/SC70(KS)/KS_3.pdf; ComponentLink4Description: URL Link1; ComponentLink4URL: Product URL:http://www.analog.com/en/special-linear-functions/voltage-references/adr1500/products/product.html
footprint ADI-KS-3_N (SOT23, 3-Leads, Body 2x1.25mm, Pitch 0.65mm, IPC Medium Density)
footprint ADI-KS-3_L (SOT23, 3-Leads, Body 2x1.25mm, Pitch 0.65mm, IPC High Density)
footprint ADI-KS-3_M (SOT23, 3-Leads, Body 2x1.25mm, Pitch 0.65mm, IPC Low Density)
pins: 1 V-, 2 V+, 3 NC

## ADR1581ARTZ-R2
designator U?
Micropower, Precision Shunt Voltage Reference, 1.25 V Output, Industrial, 3-pin SOT23 (RT-3), Reel; Manufacturer: Analog Devices; PartNumber: ADR1581ARTZ-R2; Ref Out TC (ppm/C): 100; Vout: 1.25V; DatasheetVersion: Rev. 0; PackageVersion: 011909-C, 02/2009; PackageReference: RT-3; PackageDescription: 3-Pin Small Outline Transistor Package, Body 2.9 x 1.3 mm, Pitch 0.96 mm; Supplier 1: Digi-Key; Supplier Part Number 1: ADR1581ARTZ-R2-ND; Supplier 2: Farnell; Supplier Part Number 2: 2074901RL; Supplier 3: Farnell; Supplier Part Number 3: 2074901; Supplier 4: Farnell; Supplier Part Number 4: 1571201; Supplier 5: Mouser; Supplier Part Number 5: 584-ADR1581ARTZ-R2; Packing: Reel; Operating Temp Range: -40 to 85 degC; Mounting Technology: Surface Mount; Code_JEDEC: TO-236-AB; ComponentLink1Description: Manufacturer URL; ComponentLink1URL: http://www.analog.com/en/index.html; ComponentLink2Description: Datasheet; ComponentLink2URL: http://www.analog.com/static/imported-files/data_sheets/ADR1581.pdf; ComponentLink3Description: Package Specification; ComponentLink3URL: http:/www.analog.com/static/imported-files/packages/PKG_PDF/SOT-23-3 (RT)/RT_3.pdf; ComponentLink4Description: URL Link1; ComponentLink4URL: Product URL:http://www.analog.com/en/special-linear-functions/voltage-references/adr1581/products/product.html
footprint ADI-RT-3_N (SOT23, 3-Leads, Body 2.9x1.3mm, Pitch 0.96mm, IPC Medium Density)
footprint ADI-RT-3_L (SOT23, 3-Leads, Body 2.9x1.3mm, Pitch 0.96mm, IPC High Density)
footprint ADI-RT-3_M (SOT23, 3-Leads, Body 2.9x1.3mm, Pitch 0.96mm, IPC Low Density)
pins: 1 V+ (power), 2 V- (power), 3 NC

## ADR1581ARTZ-REEL7
designator U?
Micropower, Precision Shunt Voltage Reference, 1.25 V Output, Industrial, 3-pin SOT23 (RT-3), Reel; Manufacturer: Analog Devices; PartNumber: ADR1581ARTZ-REEL7; Ref Out TC (ppm/C): 100; Vout: 1.25V; DatasheetVersion: Rev. 0; PackageVersion: 011909-C, 02/2009; PackageReference: RT-3; PackageDescription: 3-Pin Small Outline Transistor Package, Body 2.9 x 1.3 mm, Pitch 0.96 mm; Supplier 1: Digi-Key; Supplier Part Number 1: ADR1581ARTZ-REEL7TR-ND; Supplier 2: Digi-Key; Supplier Part Number 2: ADR1581ARTZ-REEL7CT-ND; Supplier 3: Digi-Key; Supplier Part Number 3: ADR1581ARTZ-REEL7DKR-ND; Supplier 4: Mouser; Supplier Part Number 4: 584-ADR1581ARTZ-R7; Packing: Reel; Operating Temp Range: -40 to 85 degC; Mounting Technology: Surface Mount; Code_JEDEC: TO-236-AB; ComponentLink1Description: Manufacturer URL; ComponentLink1URL: http://www.analog.com/en/index.html; ComponentLink2Description: Datasheet; ComponentLink2URL: http://www.analog.com/static/imported-files/data_sheets/ADR1581.pdf; ComponentLink3Description: Package Specification; ComponentLink3URL: http:/www.analog.com/static/imported-files/packages/PKG_PDF/SOT-23-3 (RT)/RT_3.pdf; ComponentLink4Description: URL Link1; ComponentLink4URL: Product URL:http://www.analog.com/en/special-linear-functions/voltage-references/adr1581/products/product.html
footprint ADI-RT-3_N (SOT23, 3-Leads, Body 2.9x1.3mm, Pitch 0.96mm, IPC Medium Density)
footprint ADI-RT-3_L (SOT23, 3-Leads, Body 2.9x1.3mm, Pitch 0.96mm, IPC High Density)
footprint ADI-RT-3_M (SOT23, 3-Leads, Body 2.9x1.3mm, Pitch 0.96mm, IPC Low Density)
pins: 1 V+ (power), 2 V- (power), 3 NC

## ADR1581BRTZ-R2
designator U?
Micropower, Precision Shunt Voltage Reference, 1.25 V Output, Industrial, 3-pin SOT23 (RT-3), Reel; Manufacturer: Analog Devices; PartNumber: ADR1581BRTZ-R2; Ref Out TC (ppm/C): 50; Vout: 1.25V; DatasheetVersion: Rev. 0; PackageVersion: 011909-C, 02/2009; PackageReference: RT-3; PackageDescription: 3-Pin Small Outline Transistor Package, Body 2.9 x 1.3 mm, Pitch 0.96 mm; Supplier 1: Digi-Key; Supplier Part Number 1: ADR1581BRTZ-R2TR-ND; Supplier 2: Digi-Key; Supplier Part Number 2: ADR1581BRTZ-R2CT-ND; Supplier 3: Digi-Key; Supplier Part Number 3: ADR1581BRTZ-R2DKR-ND; Supplier 4: Farnell; Supplier Part Number 4: 1571202; Supplier 5: Mouser; Supplier Part Number 5: 584-ADR1581BRTZ-R2; Packing: Reel; Operating Temp Range: -40 to 85 degC; Mounting Technology: Surface Mount; Code_JEDEC: TO-236-AB; ComponentLink1Description: Manufacturer URL; ComponentLink1URL: http://www.analog.com/en/index.html; ComponentLink2Description: Datasheet; ComponentLink2URL: http://www.analog.com/static/imported-files/data_sheets/ADR1581.pdf; ComponentLink3Description: Package Specification; ComponentLink3URL: http:/www.analog.com/static/imported-files/packages/PKG_PDF/SOT-23-3 (RT)/RT_3.pdf; ComponentLink4Description: URL Link1; ComponentLink4URL: Product URL:http://www.analog.com/en/special-linear-functions/voltage-references/adr1581/products/product.html
footprint ADI-RT-3_N (SOT23, 3-Leads, Body 2.9x1.3mm, Pitch 0.96mm, IPC Medium Density)
footprint ADI-RT-3_L (SOT23, 3-Leads, Body 2.9x1.3mm, Pitch 0.96mm, IPC High Density)
footprint ADI-RT-3_M (SOT23, 3-Leads, Body 2.9x1.3mm, Pitch 0.96mm, IPC Low Density)
pins: 1 V+ (power), 2 V- (power), 3 NC

## ADR1581BRTZ-REEL7
designator U?
Micropower, Precision Shunt Voltage Reference, 1.25 V Output, Industrial, 3-pin SOT23 (RT-3), Reel; Manufacturer: Analog Devices; PartNumber: ADR1581BRTZ-REEL7; Ref Out TC (ppm/C): 50; Vout: 1.25V; DatasheetVersion: Rev. 0; PackageVersion: 011909-C, 02/2009; PackageReference: RT-3; PackageDescription: 3-Pin Small Outline Transistor Package, Body 2.9 x 1.3 mm, Pitch 0.96 mm; Supplier 1: Digi-Key; Supplier Part Number 1: ADR1581BRTZ-REEL7-ND; Supplier 2: Mouser; Supplier Part Number 2: 584-ADR1581BRTZ-R7; Packing: Reel; Operating Temp Range: -40 to 85 degC; Mounting Technology: Surface Mount; Code_JEDEC: TO-236-AB; ComponentLink1Description: Manufacturer URL; ComponentLink1URL: http://www.analog.com/en/index.html; ComponentLink2Description: Datasheet; ComponentLink2URL: http://www.analog.com/static/imported-files/data_sheets/ADR1581.pdf; ComponentLink3Description: Package Specification; ComponentLink3URL: http:/www.analog.com/static/imported-files/packages/PKG_PDF/SOT-23-3 (RT)/RT_3.pdf; ComponentLink4Description: URL Link1; ComponentLink4URL: Product URL:http://www.analog.com/en/special-linear-functions/voltage-references/adr1581/products/product.html
footprint ADI-RT-3_N (SOT23, 3-Leads, Body 2.9x1.3mm, Pitch 0.96mm, IPC Medium Density)
footprint ADI-RT-3_L (SOT23, 3-Leads, Body 2.9x1.3mm, Pitch 0.96mm, IPC High Density)
footprint ADI-RT-3_M (SOT23, 3-Leads, Body 2.9x1.3mm, Pitch 0.96mm, IPC Low Density)
pins: 1 V+ (power), 2 V- (power), 3 NC

## ADR3412ARJZ-R2
designator U?
Micropower, High Accuracy Voltage Reference, 1.2 V Output, 2.3 to 5.5 V Supply, Industrial, 6-pin SOT23 (RJ-6), Reel; Manufacturer: Analog Devices; PartNumber: ADR3412ARJZ-R2; Max V Supply (V): 5.5; Min V Supply (V): 2.3; Ref Out TC (ppm/C): 8; Vout: 1.2V; DatasheetVersion: Rev. B; PackageVersion: 121608-A, 12/2008; PackageReference: RJ-6; PackageDescription: 6-Pin Small Outline Transistor Package, Body 2.9 x 1.6 mm, Pitch 0.95 mm; Supplier 1: Digi-Key; Supplier Part Number 1: ADR3412ARJZ-R2TR-ND; Supplier 2: Digi-Key; Supplier Part Number 2: ADR3412ARJZ-R2CT-ND; Supplier 3: Digi-Key; Supplier Part Number 3: ADR3412ARJZ-R2DKR-ND; Supplier 4: Farnell; Supplier Part Number 4: 2353495; Supplier 5: Mouser; Supplier Part Number 5: 584-ADR3412ARJZ-R2; Packing: Reel; Operating Temp Range: -40 to 125 degC; Mounting Technology: Surface Mount; Code_JEDEC: MO-178-AB; ComponentLink1Description: Manufacturer URL; ComponentLink1URL: http://www.analog.com/en/index.html; ComponentLink2Description: Datasheet; ComponentLink2URL: http://www.analog.com/static/imported-files/data_sheets/ADR3412_ADR3420_ADR3425_ADR3430_ADR3433_ADR3440_ADR3450.pdf; ComponentLink3Description: Package Specification; ComponentLink3URL: http://www.analog.com/static/imported-files/packages/PKG_PDF/SOT-23(RJ)/RJ_6.pdf; ComponentLink4Description: URL Link1; ComponentLink4URL: Product URL:http://www.analog.com/en/special-linear-functions/voltage-references/adr3412/products/product.html
footprint ADI-RJ-6_N (SOT23, 6-Leads, Body 2.9x1.6mm, Pitch 0.95mm, IPC Medium Density)
footprint ADI-RJ-6_L (SOT23, 6-Leads, Body 2.9x1.6mm, Pitch 0.95mm, IPC High Density)
footprint ADI-RJ-6_M (SOT23, 6-Leads, Body 2.9x1.6mm, Pitch 0.95mm, IPC Low Density)
pins: 1 GND FORCE (power) "Ground Force Connection.", 2 GND SENSE (in) "Ground Voltage Sense Connection. Connect directly to the point of lowest potential in the application.", 3 ENABLE (in) "Enable Connection. Enables or disables the device.", 4 VIN (power) "Input Voltage Connection.", 5 VOUT SENSE (in) "Reference Voltage Output Sensing Connection. Connect directly to the voltage input of the load devices.", 6 VOUT FORCE (power) "Reference Voltage Output."

## ADR3412ARJZ-R7
designator U?
Micropower, High Accuracy Voltage Reference, 1.2 V Output, 2.3 to 5.5 V Supply, Industrial, 6-pin SOT23 (RJ-6), Reel; Manufacturer: Analog Devices; PartNumber: ADR3412ARJZ-R7; Max V Supply (V): 5.5; Min V Supply (V): 2.3; Ref Out TC (ppm/C): 8; Vout: 1.2V; DatasheetVersion: Rev. B; PackageVersion: 121608-A, 12/2008; PackageReference: RJ-6; PackageDescription: 6-Pin Small Outline Transistor Package, Body 2.9 x 1.6 mm, Pitch 0.95 mm; Supplier 1: Digi-Key; Supplier Part Number 1: ADR3412ARJZ-R7-ND; Supplier 2: Farnell; Supplier Part Number 2: 2377030; Supplier 3: Farnell; Supplier Part Number 3: 1855255; Supplier 4: Mouser; Supplier Part Number 4: 584-ADR3412ARJZ-R7; Packing: Reel; Operating Temp Range: -40 to 125 degC; Mounting Technology: Surface Mount; Code_JEDEC: MO-178-AB; ComponentLink1Description: Manufacturer URL; ComponentLink1URL: http://www.analog.com/en/index.html; ComponentLink2Description: Datasheet; ComponentLink2URL: http://www.analog.com/static/imported-files/data_sheets/ADR3412_ADR3420_ADR3425_ADR3430_ADR3433_ADR3440_ADR3450.pdf; ComponentLink3Description: Package Specification; ComponentLink3URL: http://www.analog.com/static/imported-files/packages/PKG_PDF/SOT-23(RJ)/RJ_6.pdf; ComponentLink4Description: URL Link1; ComponentLink4URL: Product URL:http://www.analog.com/en/special-linear-functions/voltage-references/adr3412/products/product.html
footprint ADI-RJ-6_N (SOT23, 6-Leads, Body 2.9x1.6mm, Pitch 0.95mm, IPC Medium Density)
footprint ADI-RJ-6_L (SOT23, 6-Leads, Body 2.9x1.6mm, Pitch 0.95mm, IPC High Density)
footprint ADI-RJ-6_M (SOT23, 6-Leads, Body 2.9x1.6mm, Pitch 0.95mm, IPC Low Density)
pins: 1 GND FORCE (power) "Ground Force Connection.", 2 GND SENSE (in) "Ground Voltage Sense Connection. Connect directly to the point of lowest potential in the application.", 3 ENABLE (in) "Enable Connection. Enables or disables the device.", 4 VIN (power) "Input Voltage Connection.", 5 VOUT SENSE (in) "Reference Voltage Output Sensing Connection. Connect directly to the voltage input of the load devices.", 6 VOUT FORCE (power) "Reference Voltage Output."

## ADR3420ARJZ-R2
designator U?
Micropower, High Accuracy Voltage Reference, 2.048 V Output, 2.3 to 5.5 V Supply, Industrial, 6-pin SOT23 (RJ-6), Reel; Manufacturer: Analog Devices; PartNumber: ADR3420ARJZ-R2; Max V Supply (V): 5.5; Min V Supply (V): 2.3; Ref Out TC (ppm/C): 8; Vout: 2.048V; DatasheetVersion: Rev. B; PackageVersion: 121608-A, 12/2008; PackageReference: RJ-6; PackageDescription: 6-Pin Small Outline Transistor Package, Body 2.9 x 1.6 mm, Pitch 0.95 mm; Supplier 1: Digi-Key; Supplier Part Number 1: ADR3420ARJZ-R2TR-ND; Supplier 2: Digi-Key; Supplier Part Number 2: ADR3420ARJZ-R2CT-ND; Supplier 3: Digi-Key; Supplier Part Number 3: ADR3420ARJZ-R2DKR-ND; Supplier 4: Mouser; Supplier Part Number 4: 584-ADR3420ARJZ-R2; Packing: Reel; Operating Temp Range: -40 to 125 degC; Mounting Technology: Surface Mount; Code_JEDEC: MO-178-AB; ComponentLink1Description: Manufacturer URL; ComponentLink1URL: http://www.analog.com/en/index.html; ComponentLink2Description: Datasheet; ComponentLink2URL: http://www.analog.com/static/imported-files/data_sheets/ADR3412_ADR3420_ADR3425_ADR3430_ADR3433_ADR3440_ADR3450.pdf; ComponentLink3Description: Package Specification; ComponentLink3URL: http://www.analog.com/static/imported-files/packages/PKG_PDF/SOT-23(RJ)/RJ_6.pdf; ComponentLink4Description: URL Link1; ComponentLink4URL: Product URL:http://www.analog.com/en/special-linear-functions/voltage-references/adr3420/products/product.html
footprint ADI-RJ-6_N (SOT23, 6-Leads, Body 2.9x1.6mm, Pitch 0.95mm, IPC Medium Density)
footprint ADI-RJ-6_L (SOT23, 6-Leads, Body 2.9x1.6mm, Pitch 0.95mm, IPC High Density)
footprint ADI-RJ-6_M (SOT23, 6-Leads, Body 2.9x1.6mm, Pitch 0.95mm, IPC Low Density)
pins: 1 GND FORCE (power) "Ground Force Connection.", 2 GND SENSE (in) "Ground Voltage Sense Connection. Connect directly to the point of lowest potential in the application.", 3 ENABLE (in) "Enable Connection. Enables or disables the device.", 4 VIN (power) "Input Voltage Connection.", 5 VOUT SENSE (in) "Reference Voltage Output Sensing Connection. Connect directly to the voltage input of the load devices.", 6 VOUT FORCE (power) "Reference Voltage Output."

## ADR3420ARJZ-R7
designator U?
Micropower, High Accuracy Voltage Reference, 2.048 V Output, 2.3 to 5.5 V Supply, Industrial, 6-pin SOT23 (RJ-6), Reel; Manufacturer: Analog Devices; PartNumber: ADR3420ARJZ-R7; Max V Supply (V): 5.5; Min V Supply (V): 2.3; Ref Out TC (ppm/C): 8; Vout: 2.048V; DatasheetVersion: Rev. B; PackageVersion: 121608-A, 12/2008; PackageReference: RJ-6; PackageDescription: 6-Pin Small Outline Transistor Package, Body 2.9 x 1.6 mm, Pitch 0.95 mm; Supplier 1: Digi-Key; Supplier Part Number 1: ADR3420ARJZ-R7TR-ND; Supplier 2: Digi-Key; Supplier Part Number 2: ADR3420ARJZ-R7CT-ND; Supplier 3: Digi-Key; Supplier Part Number 3: ADR3420ARJZ-R7DKR-ND; Supplier 4: Farnell; Supplier Part Number 4: 2353496; Supplier 5: Mouser; Supplier Part Number 5: 584-ADR3420ARJZ-R7; Packing: Reel; Operating Temp Range: -40 to 125 degC; Mounting Technology: Surface Mount; Code_JEDEC: MO-178-AB; ComponentLink1Description: Manufacturer URL; ComponentLink1URL: http://www.analog.com/en/index.html; ComponentLink2Description: Datasheet; ComponentLink2URL: http://www.analog.com/static/imported-files/data_sheets/ADR3412_ADR3420_ADR3425_ADR3430_ADR3433_ADR3440_ADR3450.pdf; ComponentLink3Description: Package Specification; ComponentLink3URL: http://www.analog.com/static/imported-files/packages/PKG_PDF/SOT-23(RJ)/RJ_6.pdf; ComponentLink4Description: URL Link1; ComponentLink4URL: Product URL:http://www.analog.com/en/special-linear-functions/voltage-references/adr3420/products/product.html
footprint ADI-RJ-6_N (SOT23, 6-Leads, Body 2.9x1.6mm, Pitch 0.95mm, IPC Medium Density)
footprint ADI-RJ-6_L (SOT23, 6-Leads, Body 2.9x1.6mm, Pitch 0.95mm, IPC High Density)
footprint ADI-RJ-6_M (SOT23, 6-Leads, Body 2.9x1.6mm, Pitch 0.95mm, IPC Low Density)
pins: 1 GND FORCE (power) "Ground Force Connection.", 2 GND SENSE (in) "Ground Voltage Sense Connection. Connect directly to the point of lowest potential in the application.", 3 ENABLE (in) "Enable Connection. Enables or disables the device.", 4 VIN (power) "Input Voltage Connection.", 5 VOUT SENSE (in) "Reference Voltage Output Sensing Connection. Connect directly to the voltage input of the load devices.", 6 VOUT FORCE (power) "Reference Voltage Output."